# Altium schematic symbol library CurrentSenseResistor100Ohm.SchLib: 1 symbol
Pins are listed as number, name and electrical type; pins without a type are passive.

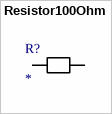
[diagram p0: symbol Resistor100Ohm]

## Resistor100Ohm
designator R?
footprint R1225X055M (Chip Resistor, 2-Leads, Body 3.20x6.40mm, IPC Low Density)
pins: 1 (power), 2    (power)